# Altium schematic symbol library U_USB2517.SchLib: 1 symbol
Pins are listed as number, name and electrical type; pins without a type are passive.

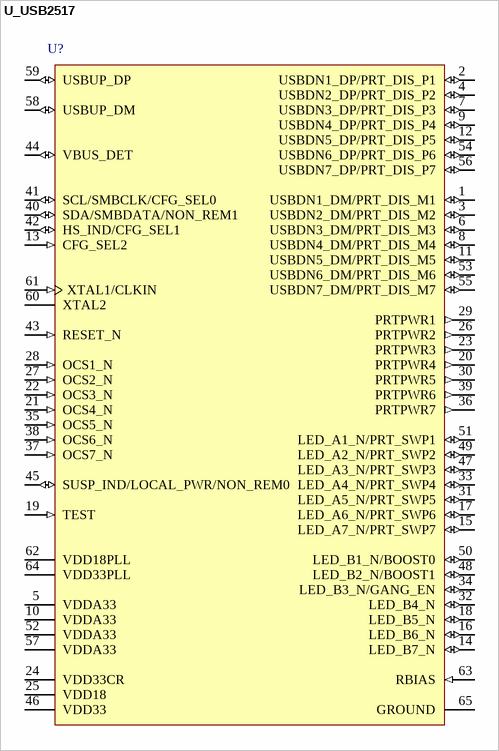
[diagram p0: symbol U_USB2517]

## U_USB2517
designator U?
pins: 1 USBDN1_DM/PRT_DIS_M1 (io), 2 USBDN1_DP/PRT_DIS_P1 (io), 3 USBDN2_DM/PRT_DIS_M2 (io), 4 USBDN2_DP/PRT_DIS_P2 (io), 5 VDDA33 (power) ""VDD Analog I/O.+3.3V Filtered analog PHY power which is shared between", 6 USBDN3_DM/PRT_DIS_M3 (io), 7 USBDN3_DP/PRT_DIS_P3 (io), 8 USBDN4_DM/PRT_DIS_M4 (io), 9 USBDN4_DP/PRT_DIS_P4 (io), 10 VDDA33 (power) ""VDD Analog I/O.+3.3V Filtered analog PHY power which is shared between", 11 USBDN5_DM/PRT_DIS_M5 (io), 12 USBDN5_DP/PRT_DIS_P5 (io), 13 CFG_SEL2 (in) "Configuration Programming Select", 14 LED_B7_N (io) "Enhanced Indicator LED for ports 7", 15 LED_A7_N/PRT_SWP7 (io), 16 LED_B6_N (io) "Enhanced Indicator LED for ports 6", 17 LED_A6_N/PRT_SWP6 (io), 18 LED_B5_N (io) "Enhanced Indicator LED for ports 5", 19 TEST (in) "TEST pin", 20 PRTPWR4 (out) "USB Power Enable", 21 OCS4_N (in) "Over-current Sense", 22 OCS3_N (in) "Over-current Sense", 23 PRTPWR3 (out) "USB Power Enable", 24 VDD33CR (power) ""VDDIO/VDD 3.3 Core Regulator Reference.+3.3V power supply for the Digital I/O. If the internal core", 25 VDD18 (power) ""VDD Core.+1.8V core power. This pin must have a 1.0uF (or greater) +/-20%", 26 PRTPWR2 (out) "USB Power Enable", 27 OCS2_N (in) "Over-current Sense", 28 OCS1_N (in) "Over-current Sense", 29 PRTPWR1 (out) "USB Power Enable", 30 PRTPWR5 (out) "USB Power Enable", 31 LED_A5_N/PRT_SWP5 (io), 32 LED_B4_N (io) "Enhanced Indicator LED for ports 4", 33 LED_A4_N/PRT_SWP4 (io), 34 LED_B3_N/GANG_EN (io), 35 OCS5_N (in) "Over-current Sense", 36 PRTPWR7 (out) "USB Power Enable", 37 OCS7_N (in) "Over-current Sense", 38 OCS6_N (in) "Over-current Sense", 39 PRTPWR6 (out) "USB Power Enable", 40 SDA/SMBDATA/NON_REM1 (io), 41 SCL/SMBCLK/CFG_SEL0 (io), 42 HS_IND/CFG_SEL1 (io), 43 RESET_N (in) "RESET Input", 44 VBUS_DET (io) "Detect Upstream VBUS Power", 45 SUSP_IND/LOCAL_PWR/NON_REM0 (io), 46 VDD33 (power) "VDD I/O.+3.3V Digital I/O power", 47 LED_A3_N/PRT_SWP3 (io), 48 LED_B2_N/BOOST1 (io), 49 LED_A2_N/PRT_SWP2 (io), 50 LED_B1_N/BOOST0 (io), 51 LED_A1_N/PRT_SWP1 (io), 52 VDDA33 (power) ""VDD Analog I/O.+3.3V Filtered analog PHY power which is shared between", 53 USBDN6_DM/PRT_DIS_M6 (io), 54 USBDN6_DP/PRT_DIS_P6 (io), 55 USBDN7_DM/PRT_DIS_M7 (io), 56 USBDN7_DP/PRT_DIS_P7 (io), 57 VDDA33 (power) ""VDD Analog I/O.+3.3V Filtered analog PHY power which is shared between", 58 USBUP_DM (io) "USB Bus Data", 59 USBUP_DP (io) "USB Bus Data", 60 XTAL2 "Crystal Output", 61 XTAL1/CLKIN (in) "Crystal Input/External Clock Input", 62 VDD18PLL (power) ""VDD PLL.+1.8V Filtered analog power for internal PLL. This pin must have", 63 RBIAS (in) "USB Transceiver Bias", 64 VDD33PLL (power) "VDD 3.3 PLL Regulator Reference.+3.3V power supply for the Digital I/O. If the internal PLL 1.8V regulator is enabled, then this pin acts as the regulator input.", 65 GROUND (power) "Ground"